# EAGLE library part 802600(DELCOM-USB) (library QuantumOptics)
802600 USB Peripheral, Delcom, 16-bit USB to parallel interface, quick and dirty USB 1.1 peripheral solution.
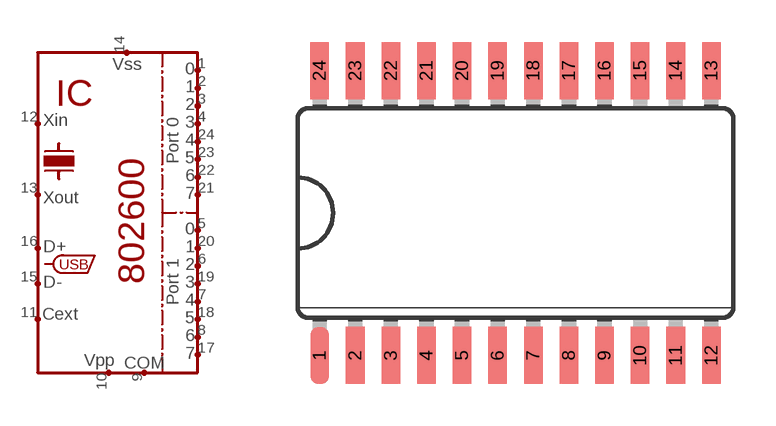
[diagram p39: symbol with the pads of SOIC-24-0.3; footprint SOIC-24-0.3]

Designator prefix IC

## 802600(DELCOM-USB)-SOIC24  [SOIC-24-0.3]
1  P0.0
2  P0.1
3  P0.2
4  P0.3
5  P1.0
6  P1.2
7  P1.4
8  P1.6
9  COM
10  VPP
11  CEXT  in
12  XTL1  in
13  XTL2  out
14  VCC
15  D-
16  D+
17  P1.7
18  P1.5
19  P1.3
20  P1.1
21  P0.7
22  P0.6
23  P0.5
24  P0.4

## Footprint SOIC-24-0.3 (pad centres in mm)
SOIC-24 with 0.3"c-c rows and 0.05" pin spacing.
smd 0.66 x 2.032: 1 -6.35,-5.08; 2 -5.08,-5.08; 3 -3.81,-5.08; 4 -2.54,-5.08; 5 -1.27,-5.08; 6 0,-5.08; 7 1.27,-5.08; 8 2.54,-5.08; 9 3.81,-5.08; 10 5.08,-5.08; 11 6.35,-5.08; 12 7.62,-5.08; 13 7.62,5.08; 14 6.35,5.08; 15 5.08,5.08; 16 3.81,5.08; 17 2.54,5.08; 18 1.27,5.08; 19 0,5.08; 20 -1.27,5.08; 21 -2.54,5.08; 22 -3.81,5.08; 23 -5.08,5.08; 24 -6.35,5.08